# Altium integrated library texas_instruments.IntLib: 13 symbols
Pins are listed as number, name and electrical type; pins without a type are passive.

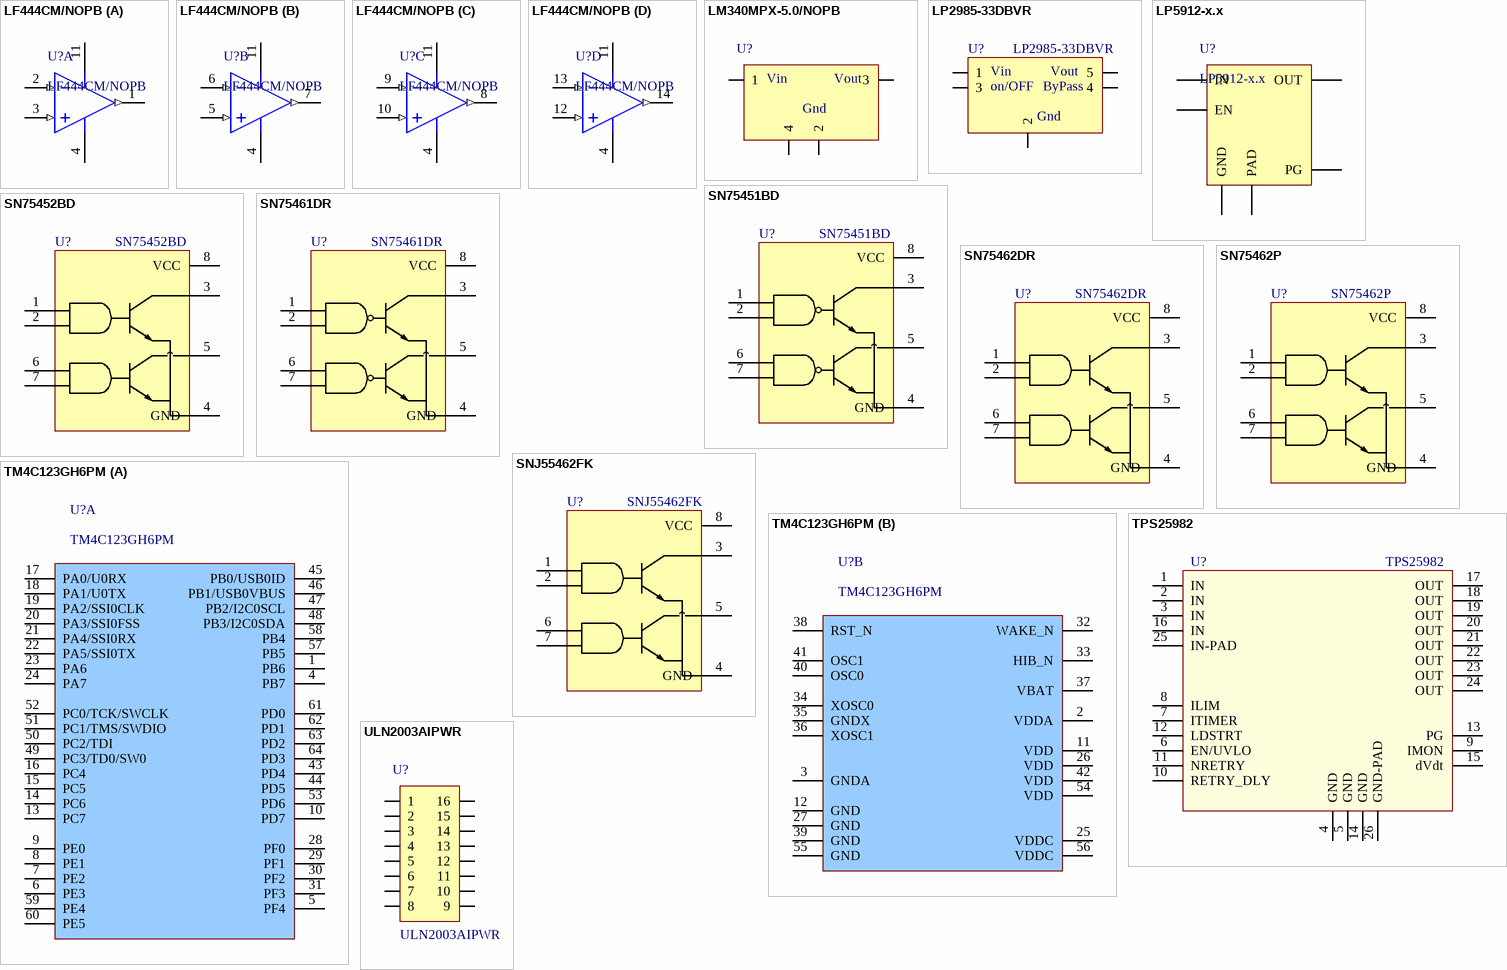
[diagram p0: symbols LF444CM/NOPB to ULN2003AIPWR]

## LF444CM/NOPB
designator U?
Quad Low Power JFET Input Operational Amplifier, 14-pin Narrow SOIC, Pb-Free; Manufacturer: Texas Instruments; PowerWise: N; PackageTopMarking: NSUZXYTTE#*LF444CM; CompType: Amplifiers; Code_IPC: SOIC127P600-14; PinCount: 14; Package Reference: D0014A; Code_JEDEC: MS-012AB; PackageDescription: Molded Package S.O., .150in Wide, 14 Lead; RoHS: Y; ComponentLink1Description: Datasheet URL; ComponentLink1URL: http://www.ti.com/general/docs/lit/getliterature.tsp?genericPartNumber=LF444&fileType=pdf
footprint D0014A_L (SOIC, 14-Leads, Body 8.75x4mm, Pitch 1.27mm, IPC High Density)
footprint D0014A_N (SOIC, 14-Leads, Body 8.75x4mm, Pitch 1.27mm, IPC Medium Density)
footprint D0014A_M (SOIC, 14-Leads, Body 8.75x4mm, Pitch 1.27mm, IPC Low Density)
pins on every part: 4 V+ (power), 11 V- (power)
part A pins: 1 OUT1 (out), 2 IN1- (in), 3 IN1+ (in)
part B pins: 5 IN2+ (in), 6 IN2- (in), 7 OUT2 (out)
part C pins: 8 OUT3 (out), 9 IN3- (in), 10 IN3+ (in)
part D pins: 12 IN4+ (in), 13 IN4- (in), 14 OUT4 (out)

## LM340MPX-5.0/NOPB
designator U?
footprint LM340MPX-5.0/NOPB (JEDEC TO-261 Variation AA)
pins: 1, 2, 3, 4
text: Vin; Vout; Gnd

## LP2985-33DBVR
designator U?
footprint LP2985-33DBVR (Linear Regulator 3.3V)
pins: 1, 2, 3, 4, 5
text: Vin; Vout; on/OFF; ByPass; Gnd

## LP5912-x.x
designator U?
500-mA Low-Noise, Low-IQ LDO
footprint DRV0006A
pins: 1 OUT, 3 PG, 4 EN, 5 GND, 6 IN, 7 PAD

## SN75451BD
designator U?
AND Dual Peripheral drivers, SMT
footprint SOP-8 (SOP, 8-Leads, Body 4.90x3.90mm, Pitch 1.27mm, IPC High Density)
pins: 1 1A, 2 1B, 3 1Y, 4 GND, 5 2Y, 6 2A, 7 2B, 8 VCC

## SN75452BD
designator U?
NAND Dual Peripheral drivers, SMT
footprint SOP-8 (SOP, 8-Leads, Body 4.90x3.90mm, Pitch 1.27mm, IPC High Density)
pins: 1 1A, 2 1B, 3 1Y, 4 GND, 5 2Y, 6 2A, 7 2B, 8 VCC

## SN75461DR
designator U?
AND Dual Peripheral drivers, SMT
footprint SOP-8 (SOP, 8-Leads, Body 4.90x3.90mm, Pitch 1.27mm, IPC High Density)
pins: 1 1A, 2 1B, 3 1Y, 4 GND, 5 2Y, 6 2A, 7 2B, 8 VCC

## SN75462DR
designator U?
NAND Dual Peripheral drivers, SMT
footprint SOP-8 (SOP, 8-Leads, Body 4.90x3.90mm, Pitch 1.27mm, IPC High Density)
pins: 1 1A, 2 1B, 3 1Y, 4 GND, 5 2Y, 6 2A, 7 2B, 8 VCC

## SN75462P
designator U?
NAND Dual Peripheral drivers, Throughhole
footprint DIP-8 (DIP; 8 Leads; Row Spacing 7.62 mm; Pitch 2.54 mm)
pins: 1 1A, 2 1B, 3 1Y, 4 GND, 5 2Y, 6 2A, 7 2B, 8 VCC

## SNJ55462FK
designator U?
NAND Dual Peripheral drivers, SMT
footprint FK20
pins: 1 1A, 2 1B, 3 1Y, 4 GND, 5 2Y, 6 2A, 7 2B, 8 VCC

## TM4C123GH6PM
designator U?
Tiva TM4C123GH6PM Microcontroller
footprint QFP50P1200X1200X160-64N
part A pins: 1 PB6, 4 PB7, 5 PF4, 6 PE3, 7 PE2, 8 PE1, 9 PE0, 10 PD7, 13 PC7, 14 PC6, 15 PC5, 16 PC4, 17 PA0/U0RX, 18 PA1/U0TX, 19 PA2/SSI0CLK, 20 PA3/SSI0FSS, 21 PA4/SSI0RX, 22 PA5/SSI0TX, 23 PA6, 24 PA7, 28 PF0, 29 PF1, 30 PF2, 31 PF3, 43 PD4, 44 PD5, 45 PB0/USB0ID, 46 PB1/USB0VBUS, 47 PB2/I2C0SCL, 48 PB3/I2C0SDA, 49 PC3/TD0/SW0, 50 PC2/TDI, 51 PC1/TMS/SWDIO, 52 PC0/TCK/SWCLK, 53 PD6, 57 PB5, 58 PB4, 59 PE4, 60 PE5, 61 PD0, 62 PD1, 63 PD2, 64 PD3
part B pins: 2 VDDA, 3 GNDA, 11 VDD, 12 GND, 25 VDDC, 26 VDD, 27 GND, 32 WAKE_N, 33 HIB_N, 34 XOSC0, 35 GNDX, 36 XOSC1, 37 VBAT, 38 RST_N, 39 GND, 40 OSC0, 41 OSC1, 42 VDD, 54 VDD, 55 GND, 56 VDDC

## TPS25982
designator U?
2.7 V to 24 V, 15-A, 2.7-mΩ Smart eFuse With 1.5% Accurate Load Current  Monitoring and Adjustable Transient Fault Management; PCB DECAL: 24-pin, 4x4-mm thin QFN package; Part Number: TPS25982
footprint SMD QFN 24_4X4MM TPS25982
pins: 1 IN, 2 IN, 3 IN, 4 GND, 5 GND, 6 EN/UVLO, 7 ITIMER, 8 ILIM, 9 IMON, 10 RETRY_DLY, 11 NRETRY, 12 LDSTRT, 13 PG, 14 GND, 15 dVdt, 16 IN, 17 OUT, 18 OUT, 19 OUT, 20 OUT, 21 OUT, 22 OUT, 23 OUT, 24 OUT, 25 IN-PAD, 26 GND-PAD

## ULN2003AIPWR
designator U?
Darlington Transistors
footprint Model Name (Footprint not found)
footprint TSSOP-16, PW (Plastic Small Outline, 16 Pin)
pins: 1, 2, 3, 4, 5, 6, 7, 8, 9, 10, 11, 12, 13, 14, 15, 16